# EAGLE library part BO-BME280 (library FaBo-Mems)
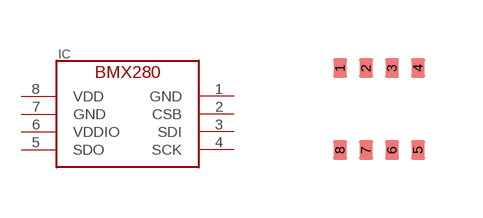
[diagram p20: symbol with the pads of BOSCH-BME280; footprint BOSCH-BME280]

Designator prefix IC

## BO-BME280  [BOSCH-BME280]
1  GND  sup
2  CSB  in
3  SDI
4  SCK  in
5  SDO
6  VDDIO  pwr
7  GND  sup
8  VDD  pwr

## Footprint BOSCH-BME280 (pad centres in mm)
smd 0.35 x 0.5: 1 -0.975,1.025; 2 -0.325,1.025; 3 0.325,1.025; 4 0.975,1.025; 5 0.975,-1.025; 6 0.325,-1.025; 7 -0.325,-1.025; 8 -0.975,-1.025